# Altium footprint library BulbCommander.PcbLib: 24 footprints (part 1 of 2)
Each footprint in its own frame and in the unit in brackets; x right, y up, seen from the top. Pads: shape width x height; smd on the part's side, far side on the other; paste and mask are expansions set on the pad; w line width, h text height; cw(c..) or ccw(c..) is an arc to the next point about the centre after c.
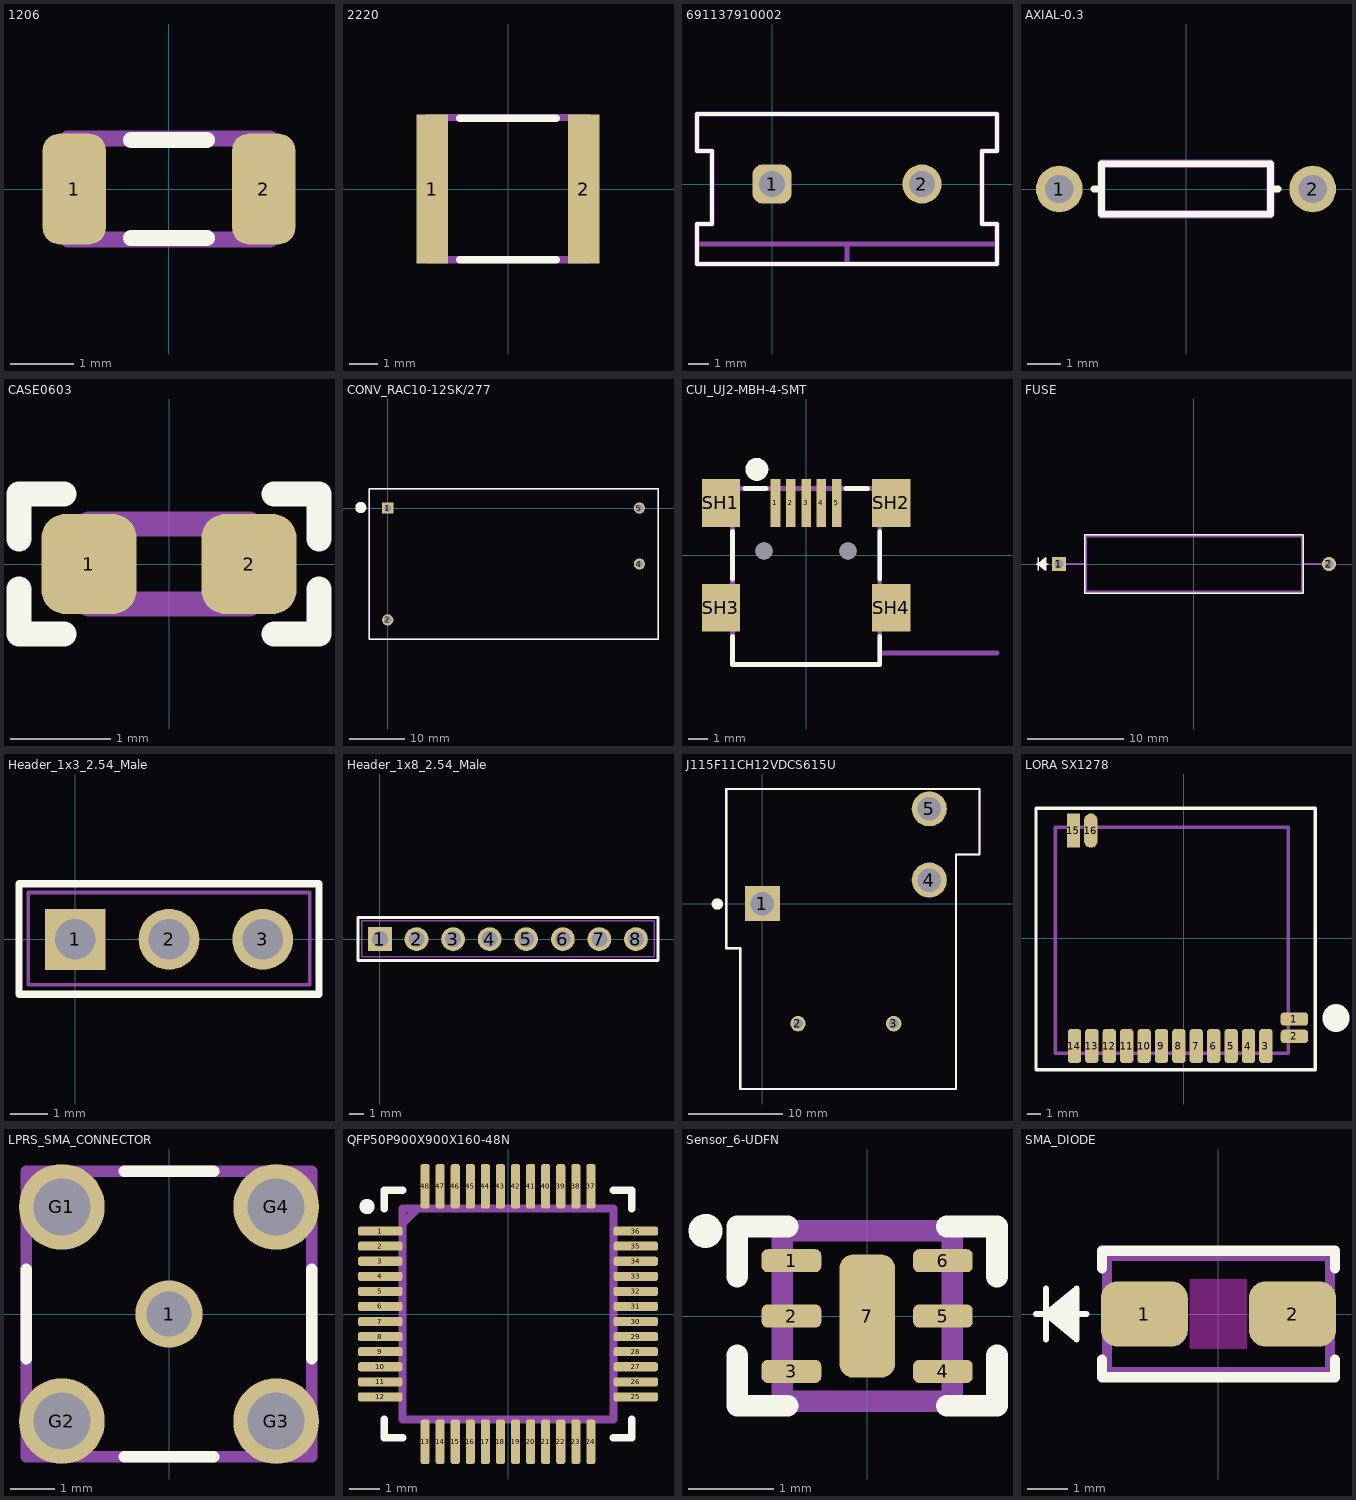
[diagram p0: the footprints below, top view; thin cyan lines are the x and y axes]

## 1206 [mm] "Chip Capacitor, 2-Leads, Body 3.2x1.6mm, IPC Medium Density"
height 1.6
pads (2):
  rrect50% 1x1.75 smd: 1(-1.5,0) 2(1.5,0)
Top Overlay:
  lines w0.254: -0.6,-0.775 0.6,-0.775 ; -0.6,0.775 0.6,0.775
Top Assembly:
  lines w0.254: -1.6,-0.8 1.6,-0.8 1.6,0.8 -1.6,0.8 -1.6,-0.8
  text ".Designator" at -0.85,-0.384 h1
3D body "CAP_C_1206.step": height 1, standoff 0, extent -1.6,-0.8 1.6,0.8

## 2220 [mm] "Chip Capacitor, 2-Leads, Body 5.7x5.0mm, IPC Medium Density"
height 2.5
pads (2):
  rect 1.1x5.2 smd: 1(-2.65,0) 2(2.65,0)
Top Overlay:
  lines w0.254: -1.7,-2.475 1.7,-2.475 ; -1.7,2.475 1.7,2.475
Top Assembly:
  lines w0.254: -2.85,-2.475 -2.85,2.5 2.85,2.5 2.85,-2.475 -2.85,-2.475
  text ".Designator" at -2.15,-0.384 h1
3D body "CAP_C_2220.step": height 2.3, standoff 0, extent -2.85,-2.5 2.85,2.5

## 691137910002 [mm] "Horizontal Cable Entry with Pressure Clamp, pitch 7.5mm, 02p"
height 11.5
pads (2):
  rrect50% 1.95x1.95 hole 1.3: 1(0,0)
  round 1.95 hole 1.3: 2(7.5,0)
Top Overlay:
  lines w0.2: -3.75,-4 11.25,-4 11.25,-1.99 10.5,-1.99 10.5,1.65 11.25,1.65 11.25,3.5 -3.75,3.5 -3.75,1.65 -3,1.65 -3,-1.99 -3.75,-1.99 -3.75,-4
Top Assembly:
  lines w0.254: -3.75,-2.995 11.25,-2.995 ; 3.75,-4 3.75,-3 ; -3.75,-4 -3.75,-1.99 -3,-1.99 -3,1.65 -3.75,1.65 -3.75,3.5 11.25,3.5 11.25,1.65 10.5,1.65 10.5,-1.99 11.25,-1.99 11.25,-4 -3.75,-4
  text ".Designator" at 0.103,-0.607 h1
3D body "691137910002.stp": height 11.52, standoff -3.58, extent -3.75,-4 11.25,3.5

## AXIAL-0.3 [mm] "Axial Device, Thru-Hole; 2 Leads; 0.3 in Pin Spacing"
height 1.524
pads (2):
  round 1.4 hole 0.85: 1(-3.81,0) 2(3.81,0)
Top Overlay:
  lines w0.2: -2.769,0 -2.54,0 ; 2.769,0 2.54,0 ; 2.54,0 2.54,-0.762 -2.54,-0.762 -2.54,0.762 2.54,0.762 2.54,0
Top Assembly:
  lines w0.254: -2.54,-0.762 2.54,-0.762 2.54,0.762 -2.54,0.762 -2.54,-0.762
  text ".Designator" at -1.947,-0.357 h1

## CASE0603 [mm]
pads (2):
  rrect50% 0.95x1 smd: 1(-0.8,0) 2(0.8,0)
Top Overlay:
  lines w0.254: -1.5,-0.25 -1.5,-0.7 -1.05,-0.7 ; -1.5,0.25 -1.5,0.7 -1.05,0.7 ; 1.05,-0.7 1.5,-0.7 1.5,-0.25 ; 1.05,0.7 1.5,0.7 1.5,0.25
Top Assembly:
  lines w0.254: -0.8,-0.4 0.8,-0.4 0.8,0.4 -0.8,0.4 -0.8,-0.4
  text ".Designator" at -0.847,-0.457 h1
3D body "CircuitWorks-CAPACITOR 0603.step": height 0.85, standoff -0.01, extent -0.8,-0.43 0.8,0.43

## CONV_RAC10-12SK/277 [mm]
pads (4):
  rect 2.03x2.03 hole 1.35: 1(0,0)
  round 2.03 hole 1.35: 2(0,-20.32) 4(45.72,-10.16) 5(45.72,0)
Top Overlay:
  circle w1: c-4.9,0.1 r0.5
  lines w0.254: -3.39,-23.86 -3.39,3.54 49.11,3.54 49.11,-23.86 -3.39,-23.86
Top Assembly:
  circle w0.4: c-4.39,0 r0.2
  lines w0.254: -3.39,-23.86 49.11,-23.86 ; -3.39,-23.86 -3.39,3.54 ; -3.39,-23.86 -3.39,3.54 ; -3.39,-23.86 49.11,-23.86 ; -3.39,3.54 49.11,3.54 ; -3.39,3.54 49.11,3.54 ; 49.11,-23.86 49.11,3.54 ; 49.11,-23.86 49.11,3.54
  text ".Designator" at 18.903,-10.007 h1
3D body "277--3DModel-STEP-1.STEP": height 23, standoff -6, extent -3.39,-23.86 49.11,3.54

## CUI_UJ2-MBH-4-SMT [mm]
pads (11):
  rect 0.5x2.5 smd: 1(-1.6,2.74) 2(-0.8,2.74) 3(0,2.74) 4(0.8,2.74) 5(1.6,2.74)
  rect 2x2.5 smd: SH1(-4.46,2.74) SH2(4.46,2.74) SH3(-4.46,-2.74) SH4(4.46,-2.74)
  round 0.9 hole 0.9 unplated: ""(-2.2,0.23) ""(2.2,0.23)
Top Overlay:
  circle w0.6: c-2.576,4.5 r0.3
  lines w0.254: -3.86,-4.24 -3.86,-5.71 3.86,-5.71 3.86,-4.24 ; -3.86,-1.24 -3.86,1.24 ; -3.21,3.49 -2.1,3.49 ; 2.1,3.49 3.21,3.49 ; 3.86,-1.24 3.86,1.24
Top Assembly:
  circle w0.16: c-1.6,2.89 r0.08
  lines w0.254: 10,-5.11 3.86,-5.11 ; 3.86,-5.11 3.86,3.49 -3.86,3.49 -3.86,-5.71 3.86,-5.71 3.86,-5.11
  text "PCB EDGE" at 4.2,-6.26 h0.8
  text ".Designator" at -2.95,-1.444 h1
3D body "Same_Sky_UJ2-MBH-4-SMT.step": height 0.5, standoff -4.4, extent -4.83,-5.71 4.83,3.69

## FUSE [mil] "Thru-Hole; 2 Leads"
height 334.65
pads (2):
  rect 58x58 / inner round 60 / far side rect 58x58 hole 38 paste-29 mask+0: 1(-553.15,0)
  round 58 / inner round 60 / far side round 58 hole 38 paste-29 mask+0: 2(553.15,0)
Top Overlay:
  lines w6: -647.15,0 -597.15,0 ; -637.15,-25 -637.15,25 ; -607.15,-20 -637.15,0 ; -607.15,-15 -637.15,0 ; -607.15,-10 -637.15,0 ; -607.15,-5 -637.15,0 ; -607.15,5 -637.15,0 ; -607.15,10 -637.15,0 ; -607.15,15 -637.15,0 ; -607.15,20 -637.15,0 ; -637.15,0 -607.15,25 -607.15,-25 -637.15,0 ; -448,-119 448,-119 448,119 -448,119 -448,-119
Top Assembly:
  lines w10: -553.15,0 -443,0 ; 443,0 553.15,0 ; -443,-114 -443,114 443,114 443,-114 -443,-114
  text ".Designator" at -126.41,-34.37 h39.37
3D body "FUSE_047706_LTF.step": height 228.03, standoff -100, extent -567.17,-114.1 567.17,114.1

## Header_1x3_2.54_Male [mm]
pads (3):
  rect 1.65x1.65 hole 1.1: 1(0,0)
  round 1.65 hole 1.1: 2(2.54,0) 3(5.08,0)
Top Overlay:
  lines w0.2: -1.524,-1.484 6.604,-1.484 6.604,1.501 -1.524,1.501 -1.524,-1.484
Top Assembly:
  lines w0.1: -1.27,-1.23 6.35,-1.23 6.35,1.27 -1.27,1.27 -1.27,-1.23
  text ".Designator" at -0.547,-0.357 h1
3D body "CONN_PH1-03-UA_ADM.step": height 8.51, standoff -5.08, extent -1.27,-1.245 6.35,1.245

## Header_1x8_2.54_Male [mm]
pads (8):
  rect 1.65x1.65 hole 1.1: 1(0,0)
  round 1.65 hole 1.1: 2(2.54,0) 3(5.08,0) 4(7.62,0) 5(10.16,0) 6(12.7,0) 7(15.24,0) 8(17.78,0)
Top Overlay:
  lines w0.2: -1.524,-1.484 19.31,-1.484 19.31,1.501 -1.524,1.501 -1.524,-1.484
Top Assembly:
  lines w0.1: -1.27,-1.23 19.05,-1.23 19.05,1.27 -1.27,1.27 -1.27,-1.23
  text ".Designator" at 6.653,-0.357 h1
3D body "CONN_PH1-03-UA_ADM.step": height 8.51, standoff -5.08, extent -1.27,-1.245 6.35,1.245
3D body "CONN_PH1-03-UA_ADM.step": height 8.51, standoff -5.08, extent 6.35,-1.245 13.97,1.245
3D body "CONN_PH1-03-UA_ADM.step": height 8.51, standoff -5.08, extent 11.43,-1.245 19.05,1.245

## J115F11CH12VDCS615U [mm]
pads (5):
  rect 3.75x3.75 hole 2.5: 1(0,0)
  round 1.65 hole 1.1: 2(3.8,-12.8) 3(14,-12.8)
  round 3.75 hole 2.5: 4(17.8,2.5) 5(17.8,10.1)
Top Overlay:
  lines w0.254: -3.85,-4.775 -2.35,-4.775 -2.35,-19.774 20.65,-19.749 20.65,5.225 23.15,5.225 23.15,12.211 -3.85,12.211 -3.85,-4.775
  lines w0.6: -5.1,-0.05 cw(c-4.8,-0.05) -4.5,-0.05 cw(c-4.8,-0.05) -4.853,0.245
Top Assembly:
  lines w0.254: -3.85,-4.775 -3.85,12.211 23.15,12.211 23.15,5.225 20.65,5.225 20.65,-19.749 -2.35,-19.774 -2.35,-4.775 -3.85,-4.775
  text ".Designator" at 5.553,-2.457 h1
3D body "J115F11CH12VDCS61.5U.stp": height 20, standoff -4, extent -3.8,-19.75 23.2,12.3

## LORA SX1278 [mm]
pads (16):
  rrect50% 2x0.98 smd: 1(8.064,-5.891) 2(8.064,-7.161)
  rrect50% 0.98x2.5 smd: 3(5.98,-7.864) 4(4.71,-7.864) 5(3.44,-7.864) 6(2.17,-7.864) 7(0.9,-7.864) 8(-0.37,-7.864) 9(-1.64,-7.864) 10(-2.91,-7.864) 11(-4.18,-7.864) 12(-5.45,-7.864) 13(-6.72,-7.864) 14(-7.99,-7.864)
  rrect10% 0.98x2.5 smd: 15(-8.064,7.864)
  oval 0.98x2.5 smd: 16(-6.794,7.864)
Top Overlay:
  lines w0.254: -10.8,-9.6 9.6,-9.6 9.6,9.5 -10.8,9.5 -10.8,-9.6
  lines w2: 11.097,-5.834 ccw(c10.9,-5.8) 11.1,-5.8
Top Assembly:
  lines w0.254: -9.4,-8.4 -9.4,8.1 7.6,8.1 7.6,-8.4 -9.4,-8.4
  text ".Designator" at -3.547,-0.257 h1
3D body "SX1278_mod.STEP": height 2.18, standoff 0, extent -9.385,-8.384 7.614,8.134

## LPRS_SMA_CONNECTOR [mm]
height 8.3
pads (5):
  round 1.508 hole 1: 1(0,0)
  round 1.92 hole 1.28: G1(-2.4,2.4) G2(-2.4,-2.4) G3(2.4,-2.4) G4(2.4,2.4)
Top Overlay:
  lines w0.254: -3.2,-1 -3.2,1 ; -1,-3.2 1,-3.2 ; -1,3.2 1,3.2 ; 3.2,-1 3.2,1
Top Assembly:
  lines w0.254: -3.2,-3.2 3.2,-3.2 3.2,3.2 -3.2,3.2 -3.2,-3.2
  text ".Designator" at -2.901,-0.457 h1
3D body "step_temp.STEP": height 9.6, standoff -4, extent -3.25,-3.25 3.25,3.25

## QFP50P900X900X160-48N [mm]
pads (48):
  rrect50% 1.475x0.3 smd: 1(-4.238,2.75) 2(-4.238,2.25) 3(-4.238,1.75) 4(-4.238,1.25) 5(-4.238,0.75) 6(-4.238,0.25) 7(-4.238,-0.25) 8(-4.238,-0.75) 9(-4.238,-1.25) 10(-4.238,-1.75) 11(-4.238,-2.25) 12(-4.238,-2.75) 25(4.238,-2.75) 26(4.238,-2.25) 27(4.238,-1.75) 28(4.238,-1.25) 29(4.238,-0.75) 30(4.238,-0.25) 31(4.238,0.25) 32(4.238,0.75) 33(4.238,1.25) 34(4.238,1.75) 35(4.238,2.25) 36(4.238,2.75)
  rrect50% 0.3x1.475 smd: 13(-2.75,-4.238) 14(-2.25,-4.238) 15(-1.75,-4.238) 16(-1.25,-4.238) 17(-0.75,-4.238) 18(-0.25,-4.238) 19(0.25,-4.238) 20(0.75,-4.238) 21(1.25,-4.238) 22(1.75,-4.238) 23(2.25,-4.238) 24(2.75,-4.238) 37(2.75,4.238) 38(2.25,4.238) 39(1.75,4.238) 40(1.25,4.238) 41(0.75,4.238) 42(0.25,4.238) 43(-0.25,4.238) 44(-0.75,4.238) 45(-1.25,4.238) 46(-1.75,4.238) 47(-2.25,4.238) 48(-2.75,4.238)
Top Overlay:
  circle w0.25: c-4.673,3.565 r0.125
  lines w0.254: -4.1,-3.5 -4.1,-4.1 -3.5,-4.1 ; -4.1,3.5 -4.1,4.1 -3.5,4.1 ; 3.5,-4.1 4.1,-4.1 4.1,-3.5 ; 3.5,4.1 4.1,4.1 4.1,3.5
Top Assembly:
  lines w0.254: -3.5,3 -3,3.5 ; -3.5,-3.5 -3.5,3.5 3.5,3.5 3.5,-3.5 -3.5,-3.5
  text ".Designator" at -2.425,-0.384 h1
3D body: height 1, standoff 0, extent -3.5,-3.5 3.5,3.5

## Sensor_6-UDFN [mm]
height 0.55
pads (7):
  rrect50% 0.7x0.27 smd: 1(-0.89,0.65) 2(-0.89,0) 3(-0.89,-0.65) 4(0.89,-0.65) 5(0.89,0) 6(0.89,0.65)
  rrect50% 0.65x1.45 smd: 7(0,0)
Top Overlay:
  circle w0.2: c-1.9,1 r0.1
  lines w0.254: -1.525,-0.463 -1.525,-1.052 -0.935,-1.052 ; -1.525,0.463 -1.525,1.052 -0.935,1.052 ; 0.935,-1.052 1.525,-1.052 1.525,-0.463 ; 0.935,1.052 1.525,1.052 1.525,0.463
Top Solder:
  region: 1.34,0.415 0.44,0.415 0.44,0.235 1.34,0.235 1.34,-0.235 0.44,-0.235 0.44,-0.415 1.34,-0.415 1.34,-0.885 0.44,-0.885 0.44,-0.825 -0.44,-0.825 -0.44,-0.885 -1.34,-0.885 -1.34,-0.415 -0.44,-0.415 -0.44,-0.235 -1.34,-0.235 -1.34,0.235 -0.44,0.235 -0.44,0.415 -1.34,0.415 -1.34,0.885 -0.44,0.885 -0.44,0.825 0.44,0.825 0.44,0.885 1.34,0.885
Top Assembly:
  lines w0.254: -1,-1 -1,1 1,1 1,-1 -1,-1
  text ".Designator" at -2.15,-0.384 h1
3D body "step_temp.STEP": height 0.55, standoff 0, extent -1,-1 1,1

## SMA_DIODE [mm]
pads (2):
  rrect50% 2.18x1.63 smd paste+0 mask+0: 1(-1.857,0) 2(1.857,0)
Top Overlay:
  lines w0.152: -4.573,0 -3.303,0 ; -4.319,-0.635 -4.319,0.635 ; -3.557,-0.508 -4.319,0 ; -3.557,-0.381 -4.319,0 ; -3.557,-0.254 -4.319,0 ; -3.557,-0.127 -4.319,0 ; -3.557,0.127 -4.319,0 ; -3.557,0.254 -4.319,0 ; -3.557,0.381 -4.319,0 ; -3.557,0.508 -4.319,0 ; -4.319,0 -3.557,0.635 -3.557,-0.635 -4.319,0
  lines w0.254: -2.922,-1.148 -2.922,-1.587 2.922,-1.587 2.922,-1.148 ; -2.922,1.148 -2.922,1.587 2.922,1.587 2.922,1.148
Keep-Out Layer:
  region: -0.716,-0.866 -0.716,0.866 0.716,0.866 0.716,-0.866
Top Assembly:
  lines w0.254: -2.795,-1.46 -2.795,1.46 2.795,1.46 2.795,-1.46 -2.795,-1.46
  text ".Designator" at -2.25,-0.384 h1
3D body "SMA_DIO.step": height 2.35, standoff 0, extent -2.795,-1.46 2.795,1.46